# Altium schematic symbol library MAX1675.SchLib: 1 symbol
Pins are listed as number, name and electrical type; pins without a type are passive.

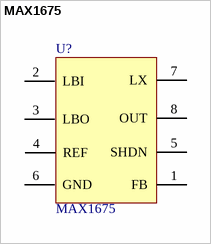
[diagram p0: symbol MAX1675]

## MAX1675
designator U?
Part Field 1: IC; Part Field 2: Step up converter, adjustable; Part Field 3: 8 microMAX; Part Field 4: Maxim; Part Field 5: MAX1675EUA; Part Field 6: 222-1207
footprint Maxim1674 (DC-DC Converter)
pins: 1 FB, 2 LBI, 3 LBO, 4 REF, 5 SHDN, 6 GND, 7 LX, 8 OUT
2 alternate drawings of the same symbol